# Altium schematic symbol library tiny switches.SchLib: 1 symbol
Pins are listed as number, name and electrical type; pins without a type are passive.

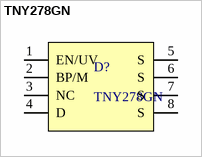
[diagram p0: symbol TNY278GN]

## TNY278GN
designator D?
21.5 W (85-265 VAC) 28 W (230 VAC)
footprint SMD-8C (SMD)
pins: 1 EN/UV, 2 BP/M, 3 NC, 4 D, 5 S, 6 S, 7 S, 8 S